# Altium schematic symbol library Antena_MXC.SchLib: 1 symbol
Pins are listed as number, name and electrical type; pins without a type are passive.

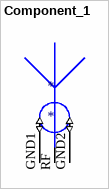
[diagram p0: symbol Component_1]

## Component_1
designator *
footprint Model Name (Footprint not found)
footprint 142-0711-821
pins: GND1 GND@1 (io), GND2 GND@2 (io), RF (io)